# Altium schematic symbol library DTM.SchLib: 2 symbols
Pins are listed as number, name and electrical type; pins without a type are passive.

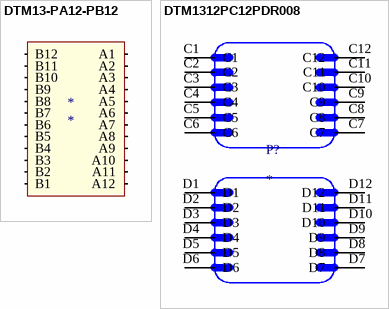
[diagram p0: symbols DTM13-PA12-PB12 to DTM1312PC12PDR008]

## DTM13-PA12-PB12
designator *
pins: ?1 A1, ?2 A2, ?3 A3, ?4 A4, ?5 A5, ?6 A6, ?7 A7, ?8 A8, ?9 A9, ?10 A10, ?11 A11, ?12 A12, ?13 B1, ?14 B2, ?15 B3, ?16 B4, ?17 B5, ?18 B6, ?19 B7, ?20 B8, ?21 B9, ?22 B10, ?23 B11, ?24 B12

## DTM1312PC12PDR008
designator P?
12pin Receptacle 90Â° Header C & D KEY
pins: C1, C2, C3, C4, C5, C6, C7, C8, C9, C10, C11, C12, D1, D2, D3, D4, D5, D6, D7, D8, D9, D10, D11, D12